# Altium schematic symbol library Power.SchLib: 9 symbols
Pins are listed as number, name and electrical type; pins without a type are passive.

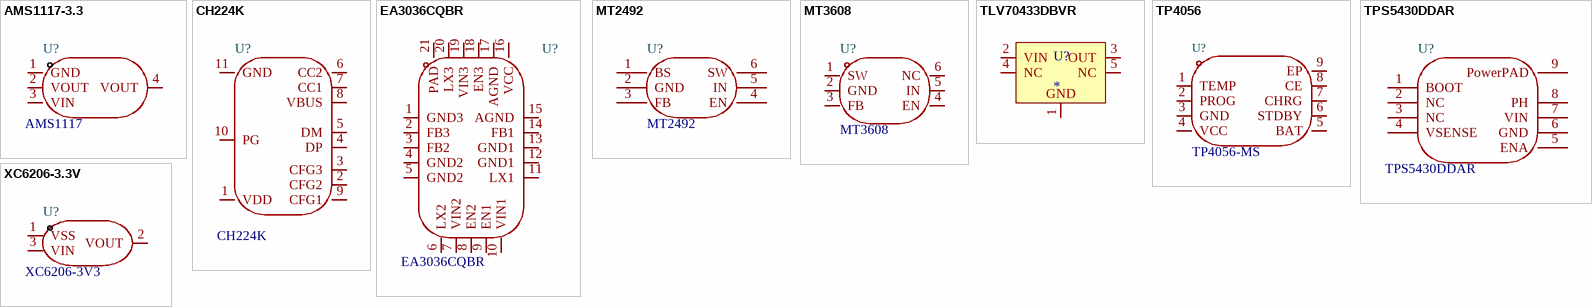
[diagram p0: symbols AMS1117-3.3 to XC6206-3.3V]

## AMS1117-3.3
designator U?, comment AMS1117
LDO/3.3V/1A; Brand: AMS; Product ID: C6186; Remark: 线性稳压器(LDO); Package: SOT-223; Model: AMS1117
footprint SOT-223-3
pins: 1 GND, 2 VOUT, 3 VIN, 4 VOUT

## CH224K
designator U?
type-c 诱骗 PD; Brand: WCH(南京沁恒); Product ID: C970725; Remark: 快充协议芯片; Package: ESSOP-10-150mil-1mm; Model: CH224K
footprint ESSOP-10_L4.9-W3.9-P1.0-LS6.0-TL-EP
pins: 1 VDD, 2 CFG2, 3 CFG3, 4 DP, 5 DM, 6 CC2, 7 CC1, 8 VBUS, 9 CFG1, 10 PG, 11 GND

## EA3036CQBR
designator U?  Model: EA3036CQBR
DCDC/三通道; Brand: everanalog(申风); Product ID: C570857; Remark: 专业电源管理(PMIC); Package: WQFN-20-EP(3x3)
footprint WQFN-20_L3.0-W3.0-P0.40-BL-EP
pins: 1 GND3, 2 FB3, 3 FB2, 4 GND2, 5 GND2, 6 LX2, 7 VIN2, 8 EN2, 9 EN1, 10 VIN1, 11 LX1, 12 GND1, 13 GND1, 14 FB1, 15 AGND, 16 VCC, 17 AGND, 18 EN3, 19 VIN3, 20 LX3, 21 PAD

## MT2492
designator U?
DCDC/4.5V~16V; Brand: 西安航天民芯; Product ID: C89358; Remark: DC-DC电源芯片; Package: SOT-23-6; Model: MT2492
footprint SOT-23-6
pins: 1 BS, 2 GND, 3 FB, 4 EN, 5 IN, 6 SW

## MT3608
designator U?
DCDC/2V~24V; Brand: 西安航天民芯; Product ID: C84817; Remark: DC-DC电源芯片; Package: SOT-23-6; Model: MT3608
footprint SOT-23-6
pins: 1 SW, 2 GND, 3 FB, 4 EN, 5 IN, 6 NC

## TLV70433DBVR
designator U?
LDO/2.5V~24V/3.3V/150mA; Brand: TI(德州仪器); Model: TLV70433DBVR*; Remark: 线性稳压器(LDO); Product ID: C94917; Package: SOT-23-5
footprint SOT-23-5_L3.0-W1.7-P0.95-LS2.8-BR
pins: 1 GND, 2 VIN, 3 OUT, 4 NC, 5 NC

## TP4056
designator U?, comment TP4056-MS
锂电池充电管理; Brand: MSKSEMI(美森科); Product ID: C7473158; Remark: 电池管理; Package: SOP-8-EP; Model: TP4056-MS
footprint ESOP-8
pins: 1 TEMP, 2 PROG, 3 GND, 4 VCC, 5 BAT, 6 STDBY, 7 CHRG, 8 CE, 9 EP

## TPS5430DDAR
designator U?
DCDC/5.5V~36V/3A; Brand: TI(德州仪器); Product ID: C9864; Remark: DC-DC电源芯片; Package: SOIC-8-EP; Model: TPS5430DDAR
footprint ESOP-8
pins: 1 BOOT, 2 NC, 3 NC, 4 VSENSE, 5 ENA, 6 GND, 7 VIN, 8 PH, 9 PowerPAD

## XC6206-3.3V
designator U?, comment XC6206-3V3
LDO/3.3V/250mA; Brand: UMW(友台半导体); Product ID: C347376; Remark: 线性稳压器(LDO); Package: SOT-23; Model: XC6206-3V3
footprint SSOT-3
pins: 1 VSS, 2 VOUT, 3 VIN